# Altium footprint library PcbLib1.PcbLib: 11 footprints
Each footprint in its own frame and in the unit in brackets; x right, y up, seen from the top. Pads: shape width x height; smd on the part's side, far side on the other; paste and mask are expansions set on the pad; w line width, h text height; cw(c..) or ccw(c..) is an arc to the next point about the centre after c.
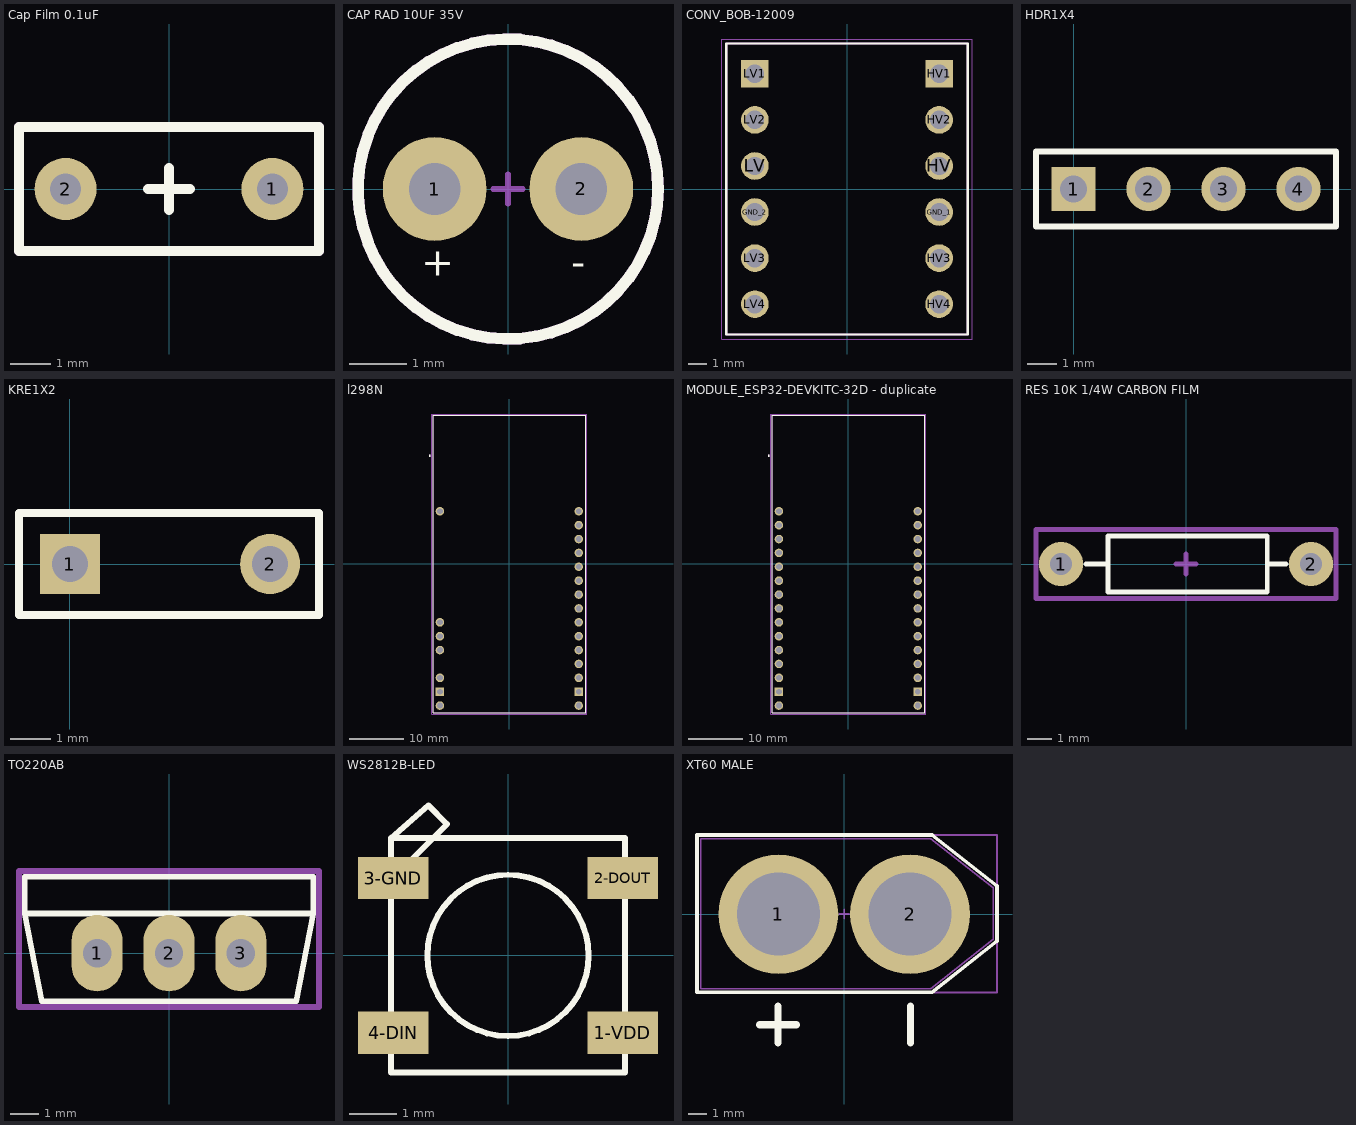
[diagram p0: the footprints below, top view; thin cyan lines are the x and y axes]

## Cap Film 0.1uF [mil] "Cap Film 0.1uF"
height 255.91
pads (2):
  round 60 hole 30: 1(100,0) 2(-100,0)
Top Overlay:
  lines w10: 0,-20 0,20 ; -145,-60 145,-60 145,60 -145,60 -145,-60 ; -20,0 20,0 -20,0
Mechanical 15:
  lines w10: -145,-60 145,-60 145,60 -145,60 -145,-60
3D body "User Library-MKT_B32529.step": height 236.22, standoff -255.91, extent -143.7,-60 143.7,58.11

## CAP RAD 10UF 35V [mm]
pads (2):
  round 1.8 hole 0.9: 1(-1.27,0) 2(1.27,0)
Top Overlay:
  circle w0.2: c0,0 r2.6
  text "+" at -1.5,-1.5 h0.5
  text "-" at 1.1,-1.5 h0.5
Mechanical 15:
  circle w0.2: c0,0 r2.6
  lines w0.1: -0.254,0 0.254,0 ; 0,-0.254 0,0.254
Mechanical 29:
  text ".Designator" at -2.4,3 h0.5
  text "+" at -1.5,-1.5 h0.5
  text "-" at 1.1,-1.5 h0.5
3D body "CAP ELE PTH.STEP": height 12.2, standoff -1.7, extent -2.5,-2.5 2.5,2.5

## CONV_BOB-12009 [mil]
pads (12):
  round 60 hole 40: GND_1(200,-50) GND_2(-200,-50) HV(200,50) HV2(200,150) HV3(200,-150) HV4(200,-250) LV(-200,50) LV2(-200,150) LV3(-200,-150) LV4(-200,-250)
  rect 60x60 / inner round 60 / far side rect 60x60 hole 40: HV1(200,250) LV1(-200,250)
Top Overlay:
  lines w5: -262.4,-315.94 262.4,-315.94 262.4,315.94 -262.4,315.94 -262.4,-315.94
Mechanical 13:
  lines w5: -262.4,-315.94 262.4,-315.94 262.4,315.94 -262.4,315.94 -262.4,-315.94
Mechanical 15:
  lines w1.97: -272.24,-325.79 -272.24,325.79 272.24,325.79 272.24,-325.79 -272.24,-325.79
3D body "step_temp.STEP": height 110.24, standoff 0, extent -262.4,-315.94 262.4,315.94

## HDR1X4 [mm]
pads (4):
  rect 1.5x1.5 hole 0.9: 1(0,0)
  round 1.5 hole 0.9: 2(2.54,0) 3(5.08,0) 4(7.62,0)
Top Overlay:
  lines w0.2: -1.27,-1.27 -1.27,1.27 8.89,1.27 8.89,-1.27 -1.27,-1.27

## KRE1X2 [mm]
pads (2):
  rect 1.5x1.5 hole 0.9: 1(0,0)
  round 1.5 hole 0.9: 2(5,0)
Top Overlay:
  lines w0.2: -1.27,-1.27 -1.27,1.27 6.223,1.27 6.223,-1.27 -1.27,-1.27

## l298N [mm]
pads (22):
  round 1.56 hole 1.04: J2-5(-12.7,9.6) J2-13(-12.7,-10.72) J2-14(-12.7,-13.26) J2-15(-12.7,-15.8) J2-17(-12.7,-20.88) J2-19(-12.7,-25.96) J3-5(12.7,9.6) J3-6(12.7,7.06) J3-7(12.7,4.52) J3-8(12.7,1.98) J3-9(12.7,-0.56) J3-10(12.7,-3.1) J3-11(12.7,-5.64) J3-12(12.7,-8.18) J3-13(12.7,-10.72) J3-14(12.7,-13.26) J3-15(12.7,-15.8) J3-16(12.7,-18.34) J3-17(12.7,-20.88) J3-19(12.7,-25.96)
  rect 1.56x1.56 hole 1.04: J2-18(-12.7,-23.42) J3-18(12.7,-23.42)
Top Overlay:
  circle w0.2: c-14.6,19.76 r0.1
  lines w0.127: -13.95,-27.25 -13.95,27.15 13.95,27.15 13.95,-27.25 -13.95,-27.25
Mechanical 13:
  circle w0.2: c-14.6,19.76 r0.1
  lines w0.127: -13.95,-27.25 13.95,-27.25 13.95,27.15 -13.95,27.15 -13.95,-27.25
Mechanical 15:
  lines w0.05: -14.2,-27.5 14.2,-27.5 14.2,27.4 -14.2,27.4 -14.2,-27.5
3D body "step_temp.STEP": height 6.69, standoff -6, extent -13.97,-27.9 13.97,27.2

## MODULE_ESP32-DEVKITC-32D - duplicate [mm]
pads (30):
  round 1.56 hole 1.04: J2-5(-12.7,9.6) J2-6(-12.7,7.06) J2-7(-12.7,4.52) J2-8(-12.7,1.98) J2-9(-12.7,-0.56) J2-10(-12.7,-3.1) J2-11(-12.7,-5.64) J2-12(-12.7,-8.18) J2-13(-12.7,-10.72) J2-14(-12.7,-13.26) J2-15(-12.7,-15.8) J2-16(-12.7,-18.34) J2-17(-12.7,-20.88) J2-19(-12.7,-25.96) J3-5(12.7,9.6) J3-6(12.7,7.06) J3-7(12.7,4.52) J3-8(12.7,1.98) J3-9(12.7,-0.56) J3-10(12.7,-3.1) J3-11(12.7,-5.64) J3-12(12.7,-8.18) J3-13(12.7,-10.72) J3-14(12.7,-13.26) J3-15(12.7,-15.8) J3-16(12.7,-18.34) J3-17(12.7,-20.88) J3-19(12.7,-25.96)
  rect 1.56x1.56 hole 1.04: J2-18(-12.7,-23.42) J3-18(12.7,-23.42)
Top Overlay:
  circle w0.2: c-14.6,19.76 r0.1
  lines w0.127: -13.95,-27.25 -13.95,27.15 13.95,27.15 13.95,-27.25 -13.95,-27.25
Mechanical 13:
  circle w0.2: c-14.6,19.76 r0.1
  lines w0.127: -13.95,-27.25 13.95,-27.25 13.95,27.15 -13.95,27.15 -13.95,-27.25
Mechanical 15:
  lines w0.05: -14.2,-27.5 14.2,-27.5 14.2,27.4 -14.2,27.4 -14.2,-27.5
3D body "step_temp.STEP": height 6.69, standoff -6, extent -13.97,-27.9 13.97,27.2

## RES 10K 1/4W CARBON FILM [mm]
pads (2):
  round 1.8 hole 0.9: 1(-5.08,0) 2(5.08,0)
Top Overlay:
  lines w0.2: -4.064,0 -3.175,0 ; 3.302,0 4.064,0 ; -3.175,-1.143 3.302,-1.143 3.302,1.143 -3.175,1.143 -3.175,-1.143
Mechanical 15:
  lines w0.2: -0.4,0 0.4,0 ; 0,-0.4 0,0.4 ; -6.096,-1.4 -6.096,1.4 6.096,1.4 6.096,-1.4 -6.096,-1.4
Mechanical 29:
  text ".Designator" at -5.9,1.8 h0.5
  text "1" at -3.937,-1.016 h0.5
3D body "RES 10K .25W CARBON FILM.STEP": height 3.27, standoff -1.27, extent -5.473,-1.27 5.474,1.27

## TO220AB [mm]
pads (3):
  oval 1.8x2.7 hole 1: 1(-2.54,0) 2(0,0) 3(2.54,0)
Top Overlay:
  lines w0.2: -5.1,1.4 -5.1,2.7 5.1,2.7 5.1,1.4 ; -5.1,1.4 5.1,1.4 ; -5.1,1.4 -4.5,-1.7 4.5,-1.7 5.1,1.4
Mechanical 15:
  lines w0.1: -0.2,0.5 0.2,0.5 ; 0,0.3 0,0.7
  lines w0.2: -5.3,-1.9 5.3,-1.9 5.3,2.9 -5.3,2.9 -5.3,-1.9
Mechanical 29:
  text ".Designator" at -5.1,3.3 h0.5
  text "1" at -3.9,-1.4 h0.5
3D body "TO220AB.STEP": height 19.34, standoff -1.98, extent -5.15,-1.778 5.15,2.732

## WS2812B-LED [mm]
pads (4):
  rect 1.5x0.9 smd: 1-VDD(2.45,-1.65) 2-DOUT(2.45,1.65) 3-GND(-2.45,1.65) 4-DIN(-2.45,-1.65)
Top Overlay:
  circle w0.127: c0,0 r1.72
  lines w0.127: -2.5,1.6 -1.6,2.5 ; -2.5,1.6 -2.5,2.5 ; -2.5,1.6 -2.5,-2.5 2.5,-2.5 2.5,2.5 -1.6,2.5 ; -2.5,2.5 -1.7,3.2 -1.3,2.8 -1.6,2.5 ; -2.5,2.5 -1.6,2.5

## XT60 MALE [mm] "XT60 MALE"
height 16.2
pads (2):
  round 6.5 hole 4.5: 1(-3.575,0) 2(3.575,0)
Top Overlay:
  lines w0.2: -8,-4.25 4.75,-4.25 8.3,-1.465 8.3,1.529 4.769,4.3 -8,4.3 -8,-4.25
  lines w0.4: -4.6,-6 -2.6,-6 ; -3.6,-7 -3.6,-5 ; 3.6,-7 3.6,-5
Mechanical 13:
  lines w0.1: -7.8,-4.05 4.7,-4.05 8.1,-1.375 8.1,1.425 4.7,4.1 -7.8,4.1 -7.8,-4.05
Mechanical 15:
  lines w0.1: -0.25,0 0.25,0 ; 0,-0.25 0,0.25 ; -8,-4.25 8.3,-4.25 8.3,4.3 -8,4.3 -8,-4.25
Mechanical 29:
  text ".Designator" at 0,0 h1
3D body "XT60_Male.STEP": height 16.2, standoff -5, extent -7.8,-4.05 8.1,4.1